# EAGLE library part ZX62RD-AB-5P8 (library hirose-zx)
Micro USB Connector HI-SPEED Certified Source: https://www.hirose.co.jp/catalogj_hp/jd_ZX_20140305.pdf
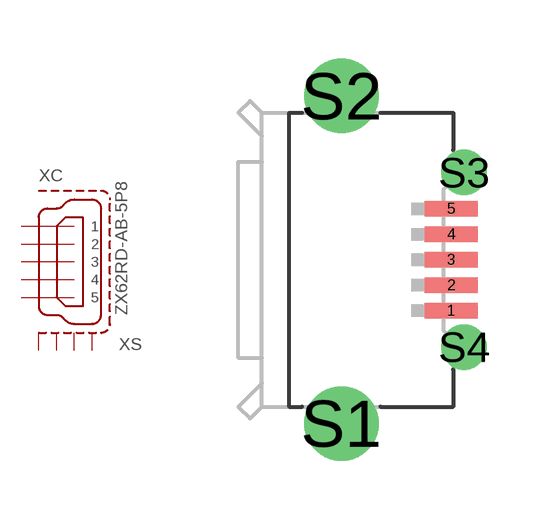
[diagram p7: symbol with the pads of ZX62RD-AB-5P8; footprint ZX62RD-AB-5P8]

Designator prefix X; gates C=MICRO-USB S=SHIELD-4

## ZX62RD-AB-5P8  [ZX62RD-AB-5P8]
1  C:1  pwr
2  C:2  out
3  C:3
4  C:4  pas
5  C:5  pwr
S1  S:S1  pas
S2  S:S2  pas
S3  S:S3  pas
S4  S:S4  pas

## Footprint ZX62RD-AB-5P8 (pad centres in mm)
smd 1.35 x 0.4: 1 2.8,-1.3; 2 2.8,-0.65; 3 2.8,0; 4 2.8,0.65; 5 2.8,1.3
drill 1.25 pad 1.9: S1 0,-4.175; S2 0,4.175
drill 0.65 pad 1.05: S3 3.125,2.225; S4 3.125,-2.225